# Altium schematic symbol library USB4135-GF-A.SchLib: 1 symbol
Pins are listed as number, name and electrical type; pins without a type are passive.

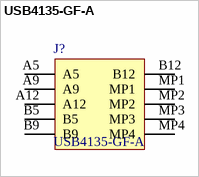
[diagram p0: symbol USB4135-GF-A]

## USB4135-GF-A
designator J?
USB Connectors USBC Rec GF RA 6P SMT-SMT stakes 3.16mm; Manufacturer_Name: GCT (GLOBAL CONNECTOR TECHNOLOGY); Geometry.Height: 3.5mm; Manufacturer_Part_Number: USB4135-GF-A; Mouser Part Number: 640-USB4135-GF-A; Mouser Price/Stock: https://www.mouser.co.uk/ProductDetail/GCT/USB4135-GF-A?qs=Li%252BoUPsLEnt6HRo6RUvaXA%3D%3D; Arrow Part Number: *; Arrow Price/Stock: *; Datasheet Link: https://ar.mouser.com/datasheet/2/837/usb4135-2930399.pdf
footprint USB4135GFA
pins: A5, A9, A12, B5, B9, B12, MP1, MP2, MP3, MP4